# Altium schematic symbol library Richs Schematic Components.SchLib: 18 symbols
Pins are listed as number, name and electrical type; pins without a type are passive.

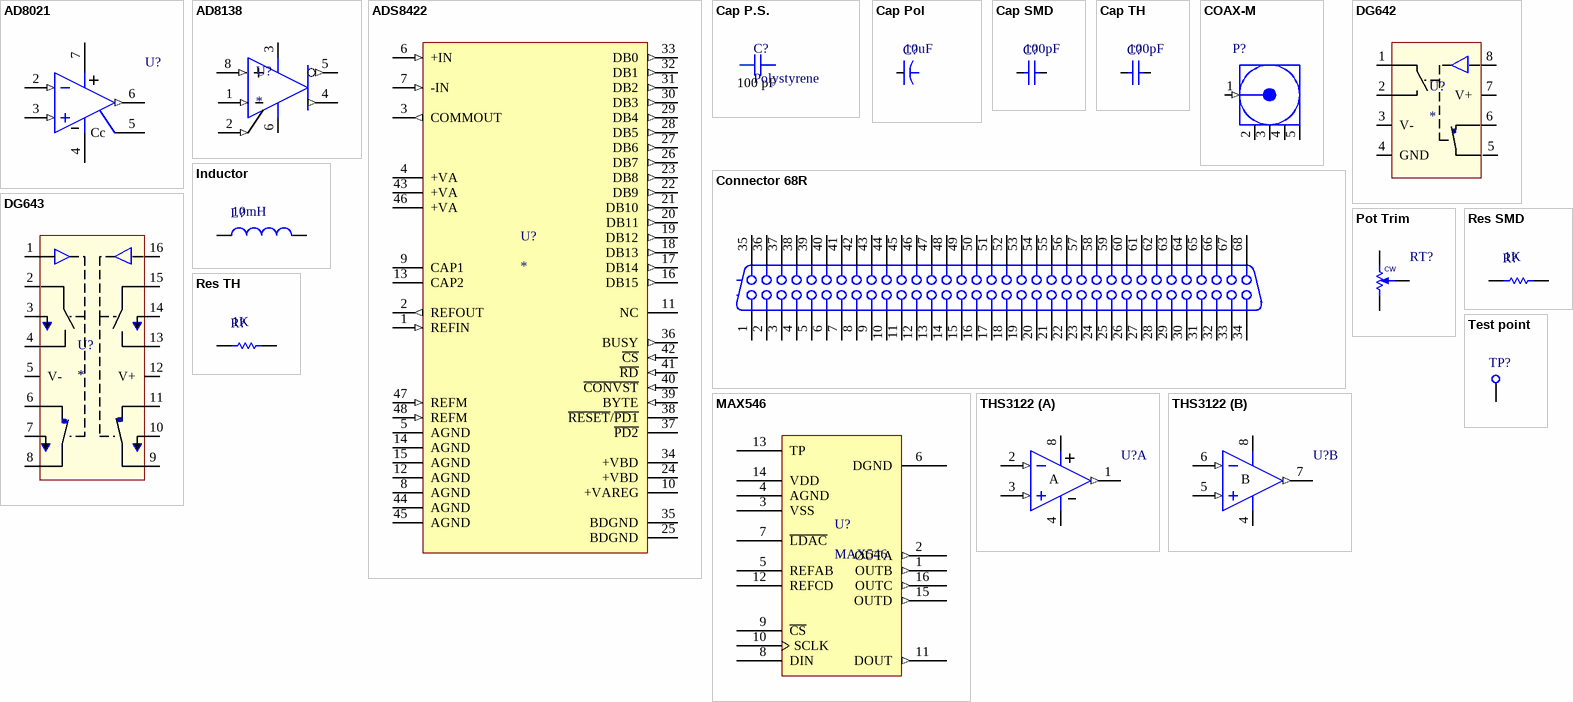
[diagram p0: symbols AD8021 to THS3122]

## AD8021
designator U?
Low Noise, High Speed Amplifier; Note: Pin 8 is not connected.; Published: 8-Jun-2000; LatestRevisionDate: 04-Mar-2005; LatestRevisionNote: Stylized 3D Model Added.; DatasheetVersion: 1992; PackageVersion: 1998; PackageReference: Q-8; Publisher: Altium Limited; PackageDescription: MSOP-8; ComponentLink1Description: Manufacturer Link; ComponentLink1URL: http://www.analog.com/en/prod/0,,759_786_AD745%2C00.html; ComponentLink2Description: Datasheet; ComponentLink2URL: http://www.analog.com/UploadedFiles/Data_Sheets/14077819AD745_d.pdf
footprint RM-8 (Shrink Small Outline, MSOP; 8 Leads; Body Width 3 mm; Pitch 0.65 mm)
pins: 1 LOGIC REF hidden, 2 IN- (in), 3 IN+ (in), 4 V- (power), 5 Cc, 6 OUT (out), 7 V+ (power), 8 /DISABLE hidden

## AD8138
designator U?
AD8138
footprint 182h_m (8-Pin Small Outline Integrated Circuit 1.27 mm Pitch, IPC Low Density)
pins: 1 -IN (in), 2 VOCM (in), 3 V+, 4 +OUT (out), 5 -OUT (out), 6 V-, 7 NC hidden, 8 +IN (in)

## ADS8422
designator U?
AD8422
footprint TQFP48_m (48-Pin Thin Quad Flat Pack 0.5 mm Pitch, IPC Low Density)
pins: 1 REFIN (in), 2 REFOUT (out), 3 COMMOUT (out), 4 +VA, 5 AGND, 6 +IN (in), 7 -IN (in), 8 AGND, 9 CAP1, 10 +VAREG, 11 NC, 12 AGND, 13 CAP2, 14 AGND, 15 AGND, 16 DB15 (out), 17 DB14 (out), 18 DB13 (out), 19 DB12 (out), 20 DB11 (out), 21 DB10 (out), 22 DB9 (out), 23 DB8 (out), 24 +VBD, 25 BDGND, 26 DB7 (out), 27 DB6 (out), 28 DB5 (out), 29 DB4 (out), 30 DB3 (out), 31 DB2 (out), 32 DB1 (out), 33 DB0 (out), 34 +VBD, 35 BDGND, 36 BUSY (out), 37 ~{PD2}, 38 ~{RESET}/~{PD1}, 39 BYTE (in), 40 ~{CONVST} (in), 41 ~{RD} (in), 42 ~{CS} (in), 43 +VA, 44 AGND, 45 AGND, 46 +VA, 47 REFM (in), 48 REFM (in)

## Cap P.S.
designator C?, comment Polystyrene  value 100 pF
Square Polystyrene Cap
footprint Cap P.S.
pins: 1, 2

## Cap Pol
designator C?  value 10uF
Capacitor; Published: 23-Sep-2002; PackageReference: CAPR5-4X5; Publisher: Altium Limited
footprint SMD_CAP_3216
footprint CAPPR5-5x5 (Capacitor, Electrolytic, Radial; Body 5 x 5 mm (Dia.xH typ); Pin Spacing 5 mm (typ))
pins: 1, 2

## Cap SMD
designator C?  value 100pF
Capacitor; Published: 8-Jun-2000; LatestRevisionDate: 17-Jul-2002; LatestRevisionNote: Re-released for DXP Platform.; PackageReference: RAD-0.3; Publisher: Altium Limited
footprint SMD_0805
pins: 1, 2

## Cap TH
designator C?  value 100pF
Capacitor; Published: 8-Jun-2000; LatestRevisionDate: 17-Jul-2002; LatestRevisionNote: Re-released for DXP Platform.; PackageReference: RAD-0.3; Publisher: Altium Limited
footprint RAD-0.1 (Indicating Instrument; 2 Leads)
pins: 1, 2

## COAX-M
designator P?
RF Coaxial PCB Connector, MMCX; Thru-Hole, Vertical Mount Plug,  50 Ohm Impedance; PackageDocument: Rev. A, 16-Jun-1997; PCB_Layout: Complies with manufacturer's recommendation.; DrillSize: Corresponds to nominal value.; Published: 15-Jul-2004; LatestRevisionDate: 15-Jul-2004; LatestRevisionNote: Component Replaced.; DatasheetDocument: 30-May-2003; PackageReference: 908-21103; Publisher: Altium Limited; ComponentLink1Description: Manufacturer Link; ComponentLink1URL: http://www.amphenolrf.com/
footprint MMCX2.54-V5 (Connector; RF Coaxial, MMCX, Thru-Hole; 5 Position; Vertical)
pins: 1 Signal (in) "Signal Pin", 2 GND (power), 3 GND (power), 4 GND (power), 5 GND (power)

## Connector 68R
designator J?
Receptacle Header Assemby; PackageDocument: B; Positions: 68; Published: 15-Jun-2001; LatestRevisionDate: 17-Jul-2002; LatestRevisionNote: Re-released for DXP Platform.; DatasheetDocument: 1-Oct-1983; PackageReference: 178240-8; Publisher: Altium Limited; Orientation: Right Angle
footprint CHAMP1.27-2H68 (Connector; 68 Position; Right Angle; Pitch 1.27 mm)
signal-integrity model Connector
pins: 1, 2, 3, 4, 5, 6, 7, 8, 9, 10, 11, 12, 13, 14, 15, 16, 17, 18, 19, 20, 21, 22, 23, 24, 25, 26, 27, 28, 29, 30, 31, 32, 33, 34, 35, 36, 37, 38, 39, 40, 41, 42, 43, 44, 45, 46, 47, 48, 49, 50, 51, 52, 53, 54, 55, 56, 57, 58, 59, 60, 61, 62, 63, 64, 65, 66, 67, 68

## DG642
designator U?
DG642
footprint 182H_m (8-Pin Small Outline Integrated Circuit 1.27 mm Pitch, IPC Low Density)
pins: 1 S1, 2 D1, 3 V-, 4 GND, 5 S2, 6 D2, 7 V+ "VGFHSDF", 8 IN

## DG643
designator U?
DG643
footprint SOIC16 (Small Outline; 16 Leads; Body Width 3.9 mm; Pitch 1.27 mm)
pins: 1 IN1, 2 D1, 3 GND, 4 S1, 5 V-, 6 S4, 7 GND, 8 D4, 9 D3, 10 GND, 11 S3, 12 V+, 13 S2, 14 GND, 15 D2, 16 IN2

## Inductor
designator L?  value 10mH
Inductor; Code_IEC: 1005; Published: 8-Jun-2000; LatestRevisionDate: 17-Jul-2002; LatestRevisionNote: Re-released for DXP Platform.; PackageReference: 0402-A; Publisher: Altium Limited; Code_JEITA: 0402
simulation model INDUCTOR (Inductor)
signal-integrity model Inductor
footprint SMD_1210_INDUCT
pins: 1, 2

## MAX546
designator U?
footprint SMD_SO16_W/D
pins: 1 OUTB (out), 2 OUTA (out), 3 VSS, 4 AGND, 5 REFAB, 6 DGND, 7 ~{LDAC}, 8 DIN, 9 ~{CS}, 10 SCLK, 11 DOUT (out), 12 REFCD, 13 TP, 14 VDD, 15 OUTD (out), 16 OUTC (out)

## Pot Trim
designator RT?
SMD Pot Bourns 3214W; Published: 17-Dec-2003; DatasheetDocument: Oct-2003; PackageReference: POT4MM-2; Publisher: Altium Limited; ComponentLink1Description: Manufacturer Link; ComponentLink1URL: http://bourns.com/2/search.html
footprint POT Bournes 3214W (SMD Trim Pot)
pins: CCW -, CW +, W
1 alternate drawing of the same symbol

## Res SMD
designator R?  value 1K
Resistor; Published: 8-Jun-2000; LatestRevisionDate: 17-Jul-2002; LatestRevisionNote: Re-released for DXP Platform.; PackageReference: AXIAL-0.3; Publisher: Altium Limited
footprint SMD_0805
pins: 1, 2

## Res TH
designator R?  value 1K
Resistor; Published: 8-Jun-2000; LatestRevisionDate: 17-Jul-2002; LatestRevisionNote: Re-released for DXP Platform.; PackageReference: AXIAL-0.3; Publisher: Altium Limited
footprint AXIAL-0.4 (Resistor; 2 Leads)
pins: 1, 2

## Test point
designator TP?  (value not drawn)
Test Point
footprint PAD_80D_052H
pins: 1 TP "Test point"

## THS3122
designator U?
Video Buffer Current FB; Published: 4-Mar-2005; LatestRevisionDate: 13-Apr-2006; LatestRevisionNote: IPC-7351 Footprint Added.; DatasheetVersion: Rev. F 2004; PackageVersion: 2005; PackageReference: R-8; Publisher: Altium Limited; PackageDescription: 8-Pin Narrow Body Small Outline Integrated Circuit 1.27 mm Pitch; Code_JEDEC: MS-012-AA; Code_IPC: SOIC127P600-8; ComponentLink1Description: Manufacturer Link; ComponentLink1URL: http://www.analog.com/en/prod/0,,759_786_AD8052%2C00.html; ComponentLink2Description: Datasheet; ComponentLink2URL: http://www.analog.com/UploadedFiles/Data_Sheets/11673395AD8051_2_4_f.pdf
footprint R-8_N (8-Pin Narrow Body Small Outline Integrated Circuit 1.27 mm Pitch, IPC Medium Density)
footprint R-8_L (SOIC, 8-Leads, Body 4.9x3.9mm, Pitch 1.27mm, IPC High Density)
footprint R-8_M (SOIC, 8-Leads, Body 4.9x3.9mm, Pitch 1.27mm, IPC Low Density)
pins on every part: 4 V- (power), 8 V+ (power)
part A pins: 1 OUT (out), 2 IN- (in), 3 IN+ (in)
part B pins: 5 IN+ (in), 6 IN- (in), 7 OUT (out)
part A text: A
part B text: B